# Altium footprint library CONN_5055670271.PcbLib: 1 footprints
Each footprint in its own frame and in the unit in brackets; x right, y up, seen from the top. Pads: shape width x height; smd on the part's side, far side on the other; paste and mask are expansions set on the pad; w line width, h text height; cw(c..) or ccw(c..) is an arc to the next point about the centre after c.
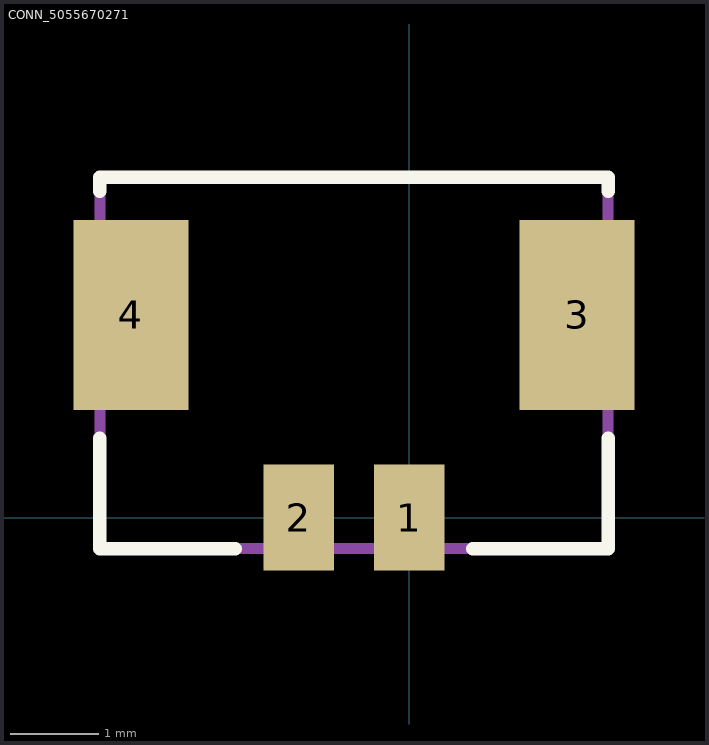
[diagram p0: the footprint, top view; thin cyan lines are the x and y axes]

## CONN_5055670271 [mm]
pads (4):
  rect 0.8x1.2 smd paste+0 mask+0.076: 1(0,0) 2(-1.25,0)
  rect 1.3x2.15 smd paste+0 mask+0.076: 3(1.9,2.295) 4(-3.15,2.295)
Top Overlay:
  lines w0.152: -3.5,0.9 -3.5,-0.35 -1.97,-0.35 ; -3.5,3.69 -3.5,3.85 2.25,3.85 2.25,3.69 ; 0.72,-0.35 2.25,-0.35 2.25,0.9
Mechanical 13:
  lines w0.127: -3.5,-0.35 -3.5,3.85 2.25,3.85 2.25,-0.35 -3.5,-0.35
3D body: height 0.25, standoff 0, extent 0,0 0.254,0.254
3D body "5055670271.stp": height 3.91, standoff 0.01, extent -3.5,-0.35 2.25,3.85